# Altium footprint library C0603K.PcbLib: 1 footprints
Each footprint in its own frame and in the unit in brackets; x right, y up, seen from the top. Pads: shape width x height; smd on the part's side, far side on the other; paste and mask are expansions set on the pad; w line width, h text height; cw(c..) or ccw(c..) is an arc to the next point about the centre after c.
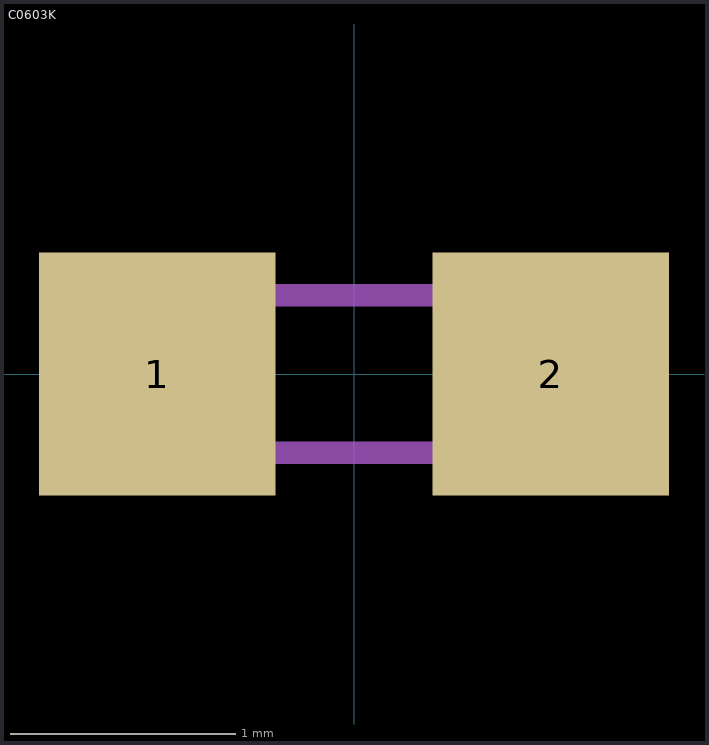
[diagram p0: the footprint, top view; thin cyan lines are the x and y axes]

## C0603K [mm]
pads (2):
  rect 1.05x1.08 smd: 1(-0.875,0) 2(0.875,0)
Mechanical 13:
  region: -0.45,-0.4 -0.801,-0.4 -0.801,0.4 -0.45,0.4
  region: 0.8,-0.401 0.451,-0.401 0.451,0.4 0.8,0.4
  lines w0.102: -0.725,-0.35 0.725,-0.35 ; -0.725,0.35 0.725,0.35